# EAGLE library part LDD-A564XRI (library Digilent)
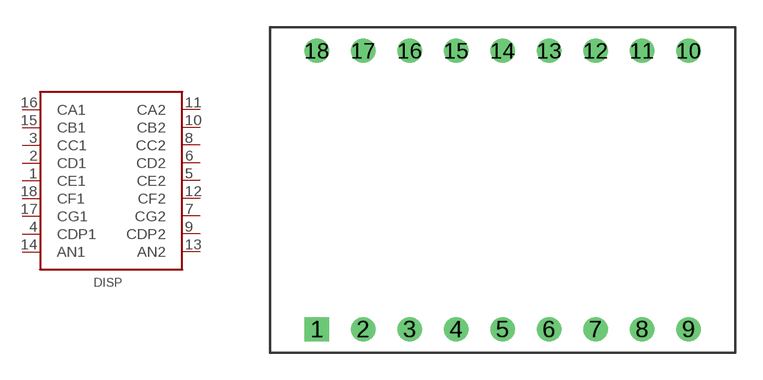
[diagram p29: symbol with the pads of LDD-A564XRI; footprint LDD-A564XRI]

Designator prefix DISP

## LDD-A564XRI  [LDD-A564XRI]
1  CE1  pas
2  CD1  pas
3  CC1  pas
4  CDP1  pas
5  CE2  pas
6  CD2  pas
7  CG2  pas
8  CC2  pas
9  CDP2  pas
10  CB2  pas
11  CA2  pas
12  CF2  pas
13  AN2  pas
14  AN1  pas
15  CB1  pas
16  CA1  pas
17  CG1  pas
18  CF1  pas

## Footprint LDD-A564XRI (pad centres in mm)
drill 0.813 square: 1 -10.16,-7.62
drill 0.813 round: 2 -7.62,-7.62; 3 -5.08,-7.62; 4 -2.54,-7.62; 5 0,-7.62; 6 2.54,-7.62; 7 5.08,-7.62; 8 7.62,-7.62; 9 10.16,-7.62; 10 10.16,7.62; 11 7.62,7.62; 12 5.08,7.62; 13 2.54,7.62; 14 0,7.62; 15 -2.54,7.62; 16 -5.08,7.62; 17 -7.62,7.62; 18 -10.16,7.62